# Altium schematic symbol library SMD Optoelectronics.SchLib: 10 symbols
Pins are listed as number, name and electrical type; pins without a type are passive.

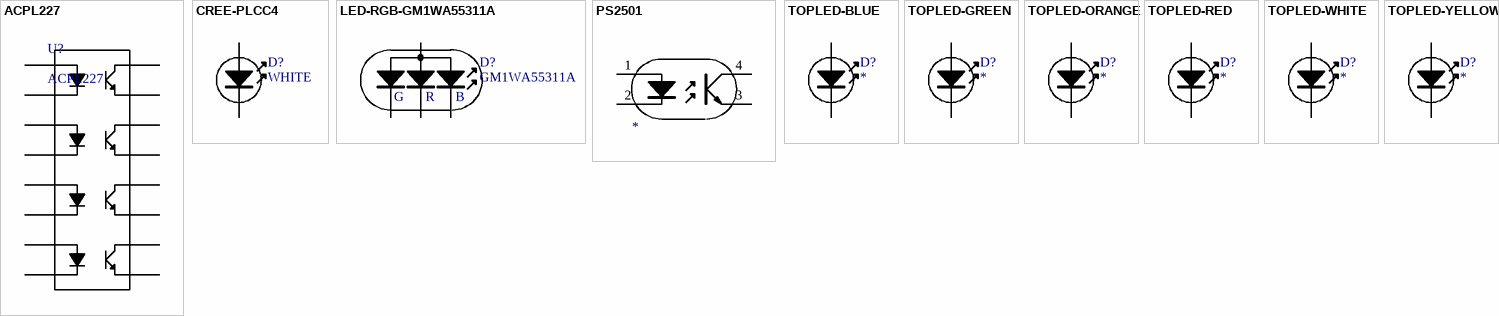
[diagram p0: symbols ACPL227 to TOPLED-YELLOW]

## ACPL227
designator U?
QUAD OPTOCOUPLER; Supplier 1: Mouser; Supplier Part Number 1: 630-ACPL-227-50BE
footprint SO16
pins: 1 A1, 2 K1, 3 A2, 4 K2, 5 A3, 6 K3, 7 A4, 8 K4, 9 E4, 10 C4, 11 E3, 12 C3, 13 E2, 14 C2, 15 E1, 16 C1

## CREE-PLCC4
designator D?, comment WHITE
CREE WHITE LED; Supplier 1: Digi-Key; Supplier Part Number 1: CLA1B-WKW-XD0F0E13TR-ND
footprint CREE-PLCC4
pins: A, K

## LED-RGB-GM1WA55311A
designator D?, comment GM1WA55311A
LED RGB SMD
pins: 1, 2, 3, 4 C
text: G; R; B

## PS2501
designator ?
pins: 1, 2, 3, 4

## TOPLED-BLUE
designator D?
TOPLED-BLUE; Manufacturer: Kingbright Corp; Manufacturer Part Number: AA3528APBC/A; Description: LED 3.5X2.8MM 470NM BLUE CLR SMD; Supplier 1: Digi-Key; Supplier Part Number 1: 754-1011-2-ND
footprint TOPLED-BLUE
pins: A, K

## TOPLED-GREEN
designator D?
TOPLED-GREEN
footprint TOPLED-GREEN
pins: A, K

## TOPLED-ORANGE
designator D?
TOPLED-ORANGE; Reel: D13; Supplier 1: Digi-Key; Supplier Part Number 1: 475-2562-2-ND
footprint TOPLED-ORANGE
pins: A, K

## TOPLED-RED
designator D?
TOPLED-RED; Manufacturer: OSRAM Opto Semiconductors Inc; Manufacturer Part Number: LS T676-Q1R2-1-Z; Description: LED SUP RED 645NM CLR 2-PLCC SMD; Reel: D13; Supplier 1: Digi-Key; Supplier Part Number 1: 475-1133-2-ND
footprint TOPLED-RED
pins: A, K

## TOPLED-WHITE
designator D?
TOPLED-WHITE
footprint TOPLED-WHITE
pins: A, K

## TOPLED-YELLOW
designator D?
TOPLED-YELLOW; Manufacturer Part Number: LY T676-S1T1-26-Z; Manufacturer: OSRAM Opto Semiconductors Inc; Description: LED TOPLED 587NM YELLOW 2-PLCC; Supplier 1: Digi-Key; Supplier Part Number 1: 475-2665-2-ND
footprint TOPLED-YELLOW
pins: A, K